# Altium footprint library TPS65130.PcbLib: 1 footprints
Each footprint in its own frame and in the unit in brackets; x right, y up, seen from the top. Pads: shape width x height; smd on the part's side, far side on the other; paste and mask are expansions set on the pad; w line width, h text height; cw(c..) or ccw(c..) is an arc to the next point about the centre after c.
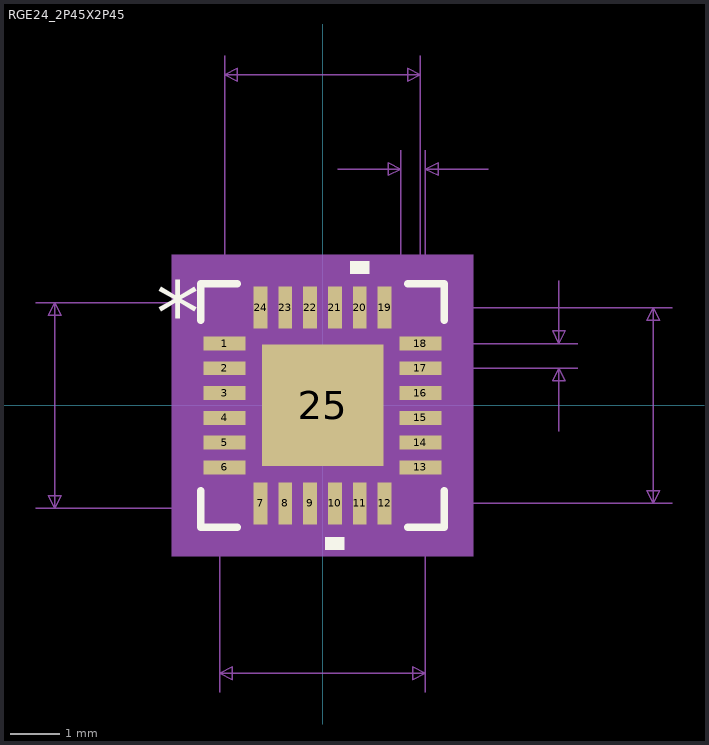
[diagram p0: the footprint, top view; thin cyan lines are the x and y axes]

## RGE24_2P45X2P45 [mm]
pads (25):
  rect 0.85x0.28 smd paste-0.14: 1(-1.975,1.25) 2(-1.975,0.75) 3(-1.975,0.25) 4(-1.975,-0.25) 5(-1.975,-0.75) 6(-1.975,-1.25) 13(1.975,-1.25) 14(1.975,-0.75) 15(1.975,-0.25) 16(1.975,0.25) 17(1.975,0.75) 18(1.975,1.25)
  rect 0.28x0.85 smd paste-0.14: 7(-1.25,-1.975) 8(-0.75,-1.975) 9(-0.25,-1.975) 10(0.25,-1.975) 11(0.75,-1.975) 12(1.25,-1.975) 19(1.25,1.975) 20(0.75,1.975) 21(0.25,1.975) 22(-0.25,1.975) 23(-0.75,1.975) 24(-1.25,1.975)
  rect 2.45x2.45 smd paste-1.212 mask-1.206: 25(0,0)
Top Overlay:
  region: 0.441,-2.654 0.06,-2.654 0.06,-2.908 0.441,-2.908
  region: 0.941,2.654 0.56,2.654 0.56,2.908 0.941,2.908
  lines w0.152: -2.456,-1.718 -2.456,-2.456 -1.718,-2.456 ; -2.456,1.718 -2.456,2.456 -1.718,2.456 ; 1.718,-2.456 2.456,-2.456 2.456,-1.718 ; 1.718,2.456 2.456,2.456 2.456,1.718
  text "*" at -3.353,1.246 h1.27
Top Paste:
  drawing of 40 lines, arcs and shapes, not listed
Top Solder:
  region: -1.48,1.46 -2.47,1.46 -2.47,1.04 -1.48,1.04
  region: -1.48,0.96 -2.47,0.96 -2.47,0.54 -1.48,0.54
  region: -1.48,0.46 -2.47,0.46 -2.47,0.04 -1.48,0.04
  region: -1.48,-0.04 -2.47,-0.04 -2.47,-0.46 -1.48,-0.46
  region: -1.48,-0.54 -2.47,-0.54 -2.47,-0.96 -1.48,-0.96
  region: -1.48,-1.04 -2.47,-1.04 -2.47,-1.46 -1.48,-1.46
  region: -1.041,-1.48 -1.46,-1.48 -1.46,-2.47 -1.041,-2.47
  region: -0.541,-1.48 -0.96,-1.48 -0.96,-2.47 -0.541,-2.47
  region: -0.04,-1.48 -0.46,-1.48 -0.46,-2.47 -0.04,-2.47
  region: 0.46,-1.48 0.04,-1.48 0.04,-2.47 0.46,-2.47
  region: 0.96,-1.48 0.541,-1.48 0.541,-2.47 0.96,-2.47
  region: 1.46,-1.48 1.041,-1.48 1.041,-2.47 1.46,-2.47
  region: 2.47,-1.04 1.48,-1.04 1.48,-1.46 2.47,-1.46
  region: 2.47,-0.54 1.48,-0.54 1.48,-0.96 2.47,-0.96
  region: 2.47,-0.04 1.48,-0.04 1.48,-0.46 2.47,-0.46
  region: 2.47,0.46 1.48,0.46 1.48,0.04 2.47,0.04
  region: 2.47,0.96 1.48,0.96 1.48,0.54 2.47,0.54
  region: 2.47,1.46 1.48,1.46 1.48,1.04 2.47,1.04
  region: 1.46,2.47 1.041,2.47 1.041,1.48 1.46,1.48
  region: 0.96,2.47 0.541,2.47 0.541,1.48 0.96,1.48
  region: 0.46,2.47 0.04,2.47 0.04,1.48 0.46,1.48
  region: -0.04,2.47 -0.46,2.47 -0.46,1.48 -0.04,1.48
  region: -0.541,2.47 -0.96,2.47 -0.96,1.48 -0.541,1.48
  region: -1.041,2.47 -1.46,2.47 -1.46,1.48 -1.041,1.48
  region: -1.289,0.987 -1.289,1.289 1.289,1.289 1.289,0.987
  region: -1.289,0.2 -1.289,0.587 1.289,0.587 1.289,0.2
  region: -1.289,-0.587 -1.289,-0.2 1.289,-0.2 1.289,-0.587
  region: -1.289,-1.289 -1.289,-0.987 1.289,-0.987 1.289,-1.289
  region: -1.289,-1.289 -1.289,1.289 -0.987,1.289 -0.987,-1.289
  region: -0.2,-1.289 -0.2,1.289 -0.587,1.289 -0.587,-1.289
  region: 0.587,-1.289 0.587,1.289 0.2,1.289 0.2,-1.289
  region: 0.987,-1.289 0.987,1.289 1.289,1.289 1.289,-1.289
Mechanical 5:
  region: 3.035,-3.035 -3.035,-3.035 -3.035,3.035 3.035,3.035
Mechanical 7:
  lines w0.025: -5.781,-2.075 2.075,-2.075 ; -5.781,2.075 2.075,2.075 2.075,-5.781 ; -2.075,-5.781 -2.075,2.075 ; -1.975,1.25 -1.975,7.051 ; 0.305,4.765 1.575,4.765 ; 1.25,-1.975 7.051,-1.975 ; 1.25,1.975 7.051,1.975 ; 1.575,1.25 1.575,5.146 ; 1.975,0.75 5.146,0.75 ; 1.975,7.051 1.975,1.25 5.146,1.25 ; 2.075,1.25 2.075,5.146 ; 3.345,4.765 2.075,4.765 ; 4.765,-0.52 4.765,0.75 ; 4.765,2.52 4.765,1.25 ; -5.4,-2.075 -5.4,2.075 ; -5.4,-2.075 -5.527,-1.821 -5.273,-1.821 -5.4,-2.075 ; -5.4,2.075 -5.527,1.821 -5.273,1.821 -5.4,2.075 ; -2.075,-5.4 2.075,-5.4 ; -2.075,-5.4 -1.821,-5.273 -1.821,-5.527 -2.075,-5.4 ; -1.975,6.67 1.975,6.67 ; -1.975,6.67 -1.721,6.797 -1.721,6.543 -1.975,6.67 ; 1.575,4.765 1.321,4.892 1.321,4.638 1.575,4.765 ; 1.975,6.67 1.721,6.797 1.721,6.543 1.975,6.67 ; 2.075,-5.4 1.821,-5.273 1.821,-5.527 2.075,-5.4 ; 2.075,4.765 2.329,4.892 2.329,4.638 2.075,4.765 ; 4.765,0.75 4.638,0.496 4.892,0.496 4.765,0.75 ; 4.765,1.25 4.638,1.504 4.892,1.504 4.765,1.25 ; 6.67,-1.975 6.67,1.975 ; 6.67,-1.975 6.543,-1.721 6.797,-1.721 6.67,-1.975 ; 6.67,1.975 6.543,1.721 6.797,1.721 6.67,1.975
  text "Default Padstyle: RX11p02Y33p46D0T" at -10.795,-8.575 h1.27
  text "Heat Tab Padstyle: RX96p46Y96p46D0T" at -11.112,-10.099 h1.27
  text "Via Padstyle: EX20Y20D10P" at -7.938,-11.623 h1.27
  text "Alt 1 Padstyle: OX60Y90D30P" at -8.572,-13.147 h1.27
  text "Alt 2 Padstyle: OX90Y60D30P" at -8.572,-14.671 h1.27
  text "0.02in/0.5mm" at 5.273,0.683 h0.64
  text "0.02in/0.5mm" at -0.08,5.273 h0.64
  text "0.156in/3.95mm" at -2.222,7.178 h0.64
  text "0.156in/3.95mm" at 7.178,-0.318 h0.64
  text "0.163in/4.15mm" at -10.353,-0.318 h0.64
  text "0.163in/4.15mm" at -2.222,-6.543 h0.64
Mechanical 13:
  lines w0.025: -2.075,0.805 -0.805,2.075 ; -2.075,-1.4 -2.075,-1.1 ; -2.075,-1.4 -2.075,-1.1 ; -2.075,-1.4 -2.075,-1.4 ; -2.075,-1.1 -2.075,-1.1 ; -2.075,-0.9 -2.075,-0.6 ; -2.075,-0.9 -2.075,-0.6 ; -2.075,-0.9 -2.075,-0.9 ; -2.075,-0.6 -2.075,-0.6 ; -2.075,-0.4 -2.075,-0.1 ; -2.075,-0.4 -2.075,-0.1 ; -2.075,-0.4 -2.075,-0.4 ; -2.075,-0.1 -2.075,-0.1 ; -2.075,0.1 -2.075,0.4 ; -2.075,0.1 -2.075,0.4 ; -2.075,0.1 -2.075,0.1 ; -2.075,0.4 -2.075,0.4 ; -2.075,0.6 -2.075,0.9 ; -2.075,0.6 -2.075,0.9 ; -2.075,0.6 -2.075,0.6 ; -2.075,0.9 -2.075,0.9 ; -2.075,1.1 -2.075,1.4 ; -2.075,1.1 -2.075,1.4 ; -2.075,1.1 -2.075,1.1 ; -2.075,1.4 -2.075,1.4 ; -1.4,-2.075 -1.1,-2.075 ; -1.4,-2.075 -1.4,-2.075 ; -1.4,-2.075 -1.1,-2.075 ; -1.4,2.075 -1.1,2.075 ; -1.4,2.075 -1.1,2.075 ; -1.4,2.075 -1.4,2.075 ; -1.1,-2.075 -1.1,-2.075 ; -1.1,2.075 -1.1,2.075 ; -0.9,-2.075 -0.6,-2.075 ; -0.9,-2.075 -0.9,-2.075 ; -0.9,-2.075 -0.6,-2.075 ; -0.9,2.075 -0.6,2.075 ; -0.9,2.075 -0.6,2.075 ; -0.9,2.075 -0.9,2.075 ; -0.6,-2.075 -0.6,-2.075 ; -0.6,2.075 -0.6,2.075 ; -0.4,-2.075 -0.1,-2.075 ; -0.4,-2.075 -0.4,-2.075 ; -0.4,-2.075 -0.1,-2.075 ; -0.4,2.075 -0.1,2.075 ; -0.4,2.075 -0.1,2.075 ; -0.4,2.075 -0.4,2.075 ; -0.1,-2.075 -0.1,-2.075 ; -0.1,2.075 -0.1,2.075 ; 0.1,-2.075 0.4,-2.075 ; 0.1,-2.075 0.1,-2.075 ; 0.1,-2.075 0.4,-2.075 ; 0.1,2.075 0.4,2.075 ; 0.1,2.075 0.4,2.075 ; 0.1,2.075 0.1,2.075 ; 0.4,-2.075 0.4,-2.075 ; 0.4,2.075 0.4,2.075 ; 0.6,-2.075 0.9,-2.075 ; 0.6,-2.075 0.6,-2.075 ; 0.6,-2.075 0.9,-2.075 ; 0.6,2.075 0.9,2.075 ; 0.6,2.075 0.9,2.075 ; 0.6,2.075 0.6,2.075 ; 0.9,-2.075 0.9,-2.075 ; 0.9,2.075 0.9,2.075 ; 1.1,-2.075 1.4,-2.075 ; 1.1,-2.075 1.1,-2.075 ; 1.1,-2.075 1.4,-2.075 ; 1.1,2.075 1.4,2.075 ; 1.1,2.075 1.4,2.075 ; 1.1,2.075 1.1,2.075 ; 1.4,-2.075 1.4,-2.075 ; 1.4,2.075 1.4,2.075 ; 2.075,-1.4 2.075,-1.1 ; 2.075,-1.4 2.075,-1.4 ; 2.075,-1.4 2.075,-1.1 ; 2.075,-1.1 2.075,-1.1 ; 2.075,-0.9 2.075,-0.6 ; 2.075,-0.9 2.075,-0.9 ; 2.075,-0.9 2.075,-0.6 ; 2.075,-0.6 2.075,-0.6 ; 2.075,-0.4 2.075,-0.1 ; 2.075,-0.4 2.075,-0.4 ; 2.075,-0.4 2.075,-0.1 ; 2.075,-0.1 2.075,-0.1 ; 2.075,0.1 2.075,0.4 ; 2.075,0.1 2.075,0.1 ; 2.075,0.1 2.075,0.4 ; 2.075,0.4 2.075,0.4 ; 2.075,0.6 2.075,0.9 ; 2.075,0.6 2.075,0.6 ; 2.075,0.6 2.075,0.9 ; 2.075,0.9 2.075,0.9 ; 2.075,1.1 2.075,1.4 ; 2.075,1.1 2.075,1.1 ; 2.075,1.1 2.075,1.4 ; 2.075,1.4 2.075,1.4 ; -2.075,-2.075 2.075,-2.075 2.075,2.075 -2.075,2.075 -2.075,-2.075
  text "*" at -1.613,0.865 h1.27
Mechanical 15:
  region: -1.758,-2.329 -2.329,-2.329 -2.329,-1.758 -2.369,-1.758 -2.369,1.758 -2.329,1.758 -2.329,2.329 -1.758,2.329 -1.758,2.369 1.758,2.369 1.758,2.329 2.329,2.329 2.329,1.758 2.369,1.758 2.369,-1.758 2.329,-1.758 2.329,-2.329 1.758,-2.329 1.758,-2.369 -1.758,-2.369
  lines w0.152: -2.369,-1.758 -2.329,-1.758 -2.329,-2.329 -1.758,-2.329 -1.758,-2.369 1.758,-2.369 1.758,-2.329 2.329,-2.329 2.329,-1.758 2.369,-1.758 2.369,1.758 2.329,1.758 2.329,2.329 1.758,2.329 1.758,2.369 -1.758,2.369 -1.758,2.329 -2.329,2.329 -2.329,1.758 -2.369,1.758 -2.369,-1.758
Mechanical 16:
  circle w0.127: c-0.787,-0.787 r0.191
  circle w0.127: c-0.787,0 r0.191
  circle w0.127: c-0.787,0.787 r0.191
  circle w0.127: c0,-0.787 r0.191
  circle w0.127: c0,0 r0.191
  circle w0.127: c0,0.787 r0.191
  circle w0.127: c0.787,-0.787 r0.191
  circle w0.127: c0.787,0 r0.191
  circle w0.127: c0.787,0.787 r0.191
3D body: height 0.25, standoff 0, extent 0,0 0.254,0.254